# Altium schematic symbol library USB TYPE-A.SchLib: 1 symbol
Pins are listed as number, name and electrical type; pins without a type are passive.

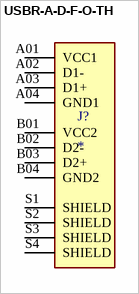
[diagram p0: symbol USBR-A-D-F-O-TH]

## USBR-A-D-F-O-TH
designator J?
USB-A (USB TYPE-A) USB 2.0 Receptacle Connector 8 Position Through Hole, Right Angle; MF: Samtec; MP: USBR-A-D-F-O-TH; SnapEDA_Link: https://www.snapeda.com/parts/USBR-A-D-F-O-TH/Samtec%20Inc./view-part/2746716/?ref=snap; Check_prices: https://www.snapeda.com/parts/USBR-A-D-F-O-TH/Samtec%20Inc./view-part/2746716/?ref=eda; Availability: Good; Value: *; Price: None; Package: None; Purchase-URL: https://pricing.snapeda.com/search/part/USBR-A-D-F-O-TH/?ref=eda
footprint USB TYPE-A
pins: A01 VCC1 (power), A02 D1-, A03 D1+, A04 GND1 (power), B01 VCC2 (power), B02 D2-, B03 D2+, B04 GND2 (power), S1 SHIELD, S2 SHIELD, S3 SHIELD, S4 SHIELD